# Altium schematic symbol library pcb_generics.SchLib: 4 symbols
Pins are listed as number, name and electrical type; pins without a type are passive.

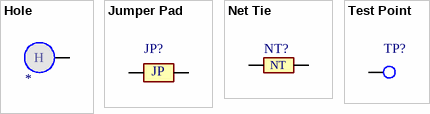
[diagram p0: symbols Hole to Test Point]

## Hole
designator MHL?  (no BOM)
pins: 1
text: H

## Jumper Pad
designator JP?  (value not drawn)  (no BOM)
pins: 1, 2
text: JP

## Net Tie
designator NT?  (value not drawn)  (net tie, no BOM)
pins: 1, 2
text: NT

## Test Point
designator TP?  (value not drawn)  (no BOM)
pins: 1